# Altium schematic symbol library Connector.SchLib: 1 symbol
Pins are listed as number, name and electrical type; pins without a type are passive.

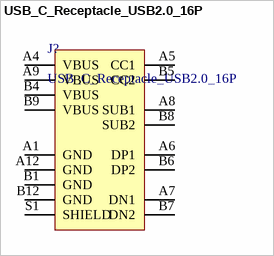
[diagram p0: symbol USB_C_Receptacle_USB2.0_16P]

## USB_C_Receptacle_USB2.0_16P
designator J?
USB 2.0-only 16P Type-C Receptacle connector
footprint USB_C_Receptacle_GCT_USB4105-xx-A_16P_TopMnt_Horizontal
pins: A1 GND, A4 VBUS, A5 CC1, A6 DP1, A7 DN1, A8 SUB1, A9 VBUS, A12 GND, B1 GND, B4 VBUS, B5 CC2, B6 DP2, B7 DN2, B8 SUB2, B9 VBUS, B12 GND, S1 SHIELD